# Altium schematic symbol library TLC556CDR.SchLib: 1 symbol
Pins are listed as number, name and electrical type; pins without a type are passive.

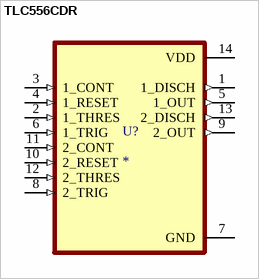
[diagram p0: symbol TLC556CDR]

## TLC556CDR
designator U?
MP: TLC556CDR; Package: None; Price: None; Value: *; Availability: Unavailable
footprint SOIC127P600X175-14N
pins: 1 1_DISCH (out), 2 1_THRES (in), 3 1_CONT (in), 4 1_RESET (in), 5 1_OUT (out), 6 1_TRIG (in), 7 GND (power), 8 2_TRIG (in), 9 2_OUT (out), 10 2_RESET (in), 11 2_CONT (in), 12 2_THRES (in), 13 2_DISCH (out), 14 VDD (power)